# Altium footprint library Voltage regulators.PcbLib: 6 footprints
Each footprint in its own frame and in the unit in brackets; x right, y up, seen from the top. Pads: shape width x height; smd on the part's side, far side on the other; paste and mask are expansions set on the pad; w line width, h text height; cw(c..) or ccw(c..) is an arc to the next point about the centre after c.
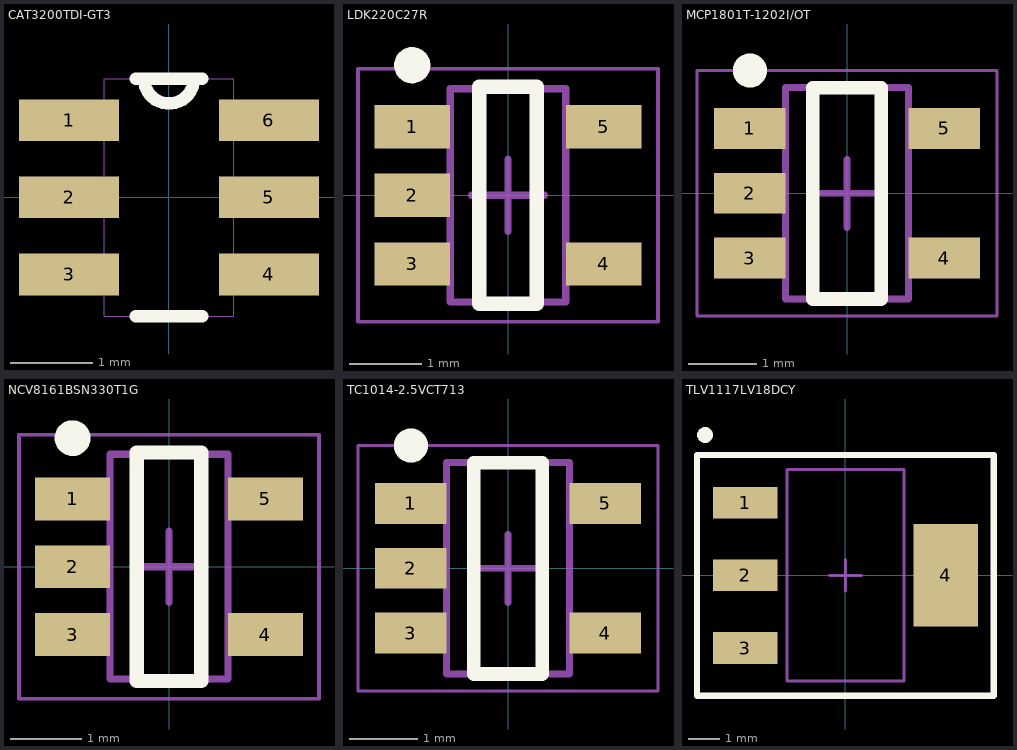
[diagram p0: the footprints below, top view; thin cyan lines are the x and y axes]

## CAT3200TDI-GT3 [mil] "Switch-mode step up reg"
pads (6):
  rect 48x20 smd: 1(-48,37) 2(-48,0) 3(-48,-37) 4(48,-37) 5(48,0) 6(48,37)
Top Overlay:
  lines w6: -16,-57 16,-57 ; -16,57 -12,57 ; 16,57 12,57 ; -12,57 ccw(c0,57) 12,57 ; -12,57 12,57
Courtyard Top:
  lines w0: -55,-46 -31,-46 ; -55,-46 -55,-29 ; -55,-46 -31,-46 ; -55,-46 -55,-29 ; -55,-29 -31,-29 ; -55,-29 -31,-29 ; -55,-9 -31,-9 ; -55,-9 -55,9 ; -55,-9 -31,-9 ; -55,-9 -55,9 ; -55,9 -31,9 ; -55,9 -31,9 ; -55,29 -31,29 ; -55,29 -55,46 ; -55,29 -31,29 ; -55,29 -55,46 ; -55,46 -31,46 ; -55,46 -31,46 ; -31,-57 -31,-46 ; -31,-57 31,-57 ; -31,-57 -31,-46 ; -31,-57 31,-57 ; -31,-46 -31,-29 ; -31,-46 -31,-29 ; -31,-29 -31,-9 ; -31,-29 -31,-9 ; -31,-9 -31,9 ; -31,-9 -31,9 ; -31,9 -31,29 ; -31,9 -31,29 ; -31,29 -31,46 ; -31,29 -31,46 ; -31,46 -31,57 ; -31,46 -31,57 ; -31,57 -12,57 ; -31,57 -12,57 ; -12,57 ccw(c0,57) 12,57 ; -12,57 ccw(c0,57) 12,57 ; -12,57 12,57 ; -12,57 12,57 ; 12,57 31,57 ; 12,57 31,57 ; 31,-57 31,-46 ; 31,-57 31,-46 ; 31,-46 55,-46 ; 31,-46 31,-29 ; 31,-46 55,-46 ; 31,-46 31,-29 ; 31,-29 55,-29 ; 31,-29 31,-9 ; 31,-29 55,-29 ; 31,-29 31,-9 ; 31,-9 55,-9 ; 31,-9 31,9 ; 31,-9 55,-9 ; 31,-9 31,9 ; 31,9 55,9 ; 31,9 31,29 ; 31,9 55,9 ; 31,9 31,29 ; 31,29 55,29 ; 31,29 31,46 ; 31,29 55,29 ; 31,29 31,46 ; 31,46 55,46 ; 31,46 31,57 ; 31,46 55,46 ; 31,46 31,57 ; 55,-46 55,-29 ; 55,-46 55,-29 ; 55,-9 55,9 ; 55,-9 55,9 ; 55,29 55,46 ; 55,29 55,46

## LDK220C27R [mm] "SOT23, 5-Leads, Body 2.95x2.80mm, Pitch 0.95mm, IPC Medium Density"
height 1.45
pads (5):
  rect 1.05x0.6 smd: 1(-1.325,0.95) 2(-1.325,0) 3(-1.325,-0.95) 4(1.325,-0.95) 5(1.325,0.95)
Top Overlay:
  circle w0.25: c-1.325,1.8 r0.125
  lines w0.2: -0.4,-1.5 -0.4,1.5 0.4,1.5 0.4,-1.5 -0.4,-1.5
Mechanical 13:
  lines w0.1: -0.8,-1.475 0.8,-1.475 0.8,1.475 -0.8,1.475 -0.8,-1.475
Mechanical 15:
  lines w0.05: -2.075,-1.75 2.075,-1.75 2.075,1.75 -2.075,1.75 -2.075,-1.75
  lines w0.1: -0.5,0 0.5,0 ; 0,-0.5 0,0.5
3D body "SOT95P280X145-5N.step": height 1.45, standoff 0, extent -1.4,-1.475 1.4,1.475

## MCP1801T-1202I/OT [mm] "SOT23, 5-Leads, Body 2,90x2,70mm, Pitch 0,95mm, IPC Medium Density"
height 1.45
pads (5):
  rect 1.05x0.6 smd: 1(-1.425,0.95) 2(-1.425,0) 3(-1.425,-0.95) 4(1.425,-0.95) 5(1.425,0.95)
Top Overlay:
  circle w0.25: c-1.425,1.8 r0.125
  lines w0.2: -0.5,-1.55 -0.5,1.55 0.5,1.55 0.5,-1.55 -0.5,-1.55
Mechanical 13:
  lines w0.1: -0.9,-1.55 0.9,-1.55 0.9,1.55 -0.9,1.55 -0.9,-1.55
Mechanical 15:
  lines w0.05: -2.2,-1.8 2.2,-1.8 2.2,1.8 -2.2,1.8 -2.2,-1.8
  lines w0.1: -0.5,0 0.5,0 ; 0,-0.5 0,0.5
3D body "SOT95P270X145-5N.step": height 1.45, standoff 0, extent -1.7,-1.55 1.7,1.55

## NCV8161BSN330T1G [mm] "SOT23, 5-Leads, Body 3.00x2.75mm, Pitch 0.95mm, IPC Medium Density"
height 1.1
pads (5):
  rect 1.05x0.6 smd: 1(-1.35,0.95) 2(-1.35,0) 3(-1.35,-0.95) 4(1.35,-0.95) 5(1.35,0.95)
Top Overlay:
  circle w0.25: c-1.35,1.8 r0.125
  lines w0.2: -0.45,-1.6 -0.45,1.6 0.45,1.6 0.45,-1.6 -0.45,-1.6
Assembly Top:
  lines w0.1: -0.825,-1.575 0.825,-1.575 0.825,1.575 -0.825,1.575 -0.825,-1.575
Courtyard Top:
  lines w0.05: -2.1,-1.85 2.1,-1.85 2.1,1.85 -2.1,1.85 -2.1,-1.85
  lines w0.1: -0.5,0 0.5,0 ; 0,-0.5 0,0.5
3D body "SOT95P275X110-5N.step": height 1.1, standoff 0, extent -1.5,-1.575 1.5,1.575

## TC1014-2.5VCT713 [mm] "SOT23, 5-Leads, Body 2,90x2,70mm, Pitch 0,95mm, IPC Medium Density"
height 1.45
pads (5):
  rect 1.05x0.6 smd: 1(-1.425,0.95) 2(-1.425,0) 3(-1.425,-0.95) 4(1.425,-0.95) 5(1.425,0.95)
Top Overlay:
  circle w0.25: c-1.425,1.8 r0.125
  lines w0.2: -0.5,-1.55 -0.5,1.55 0.5,1.55 0.5,-1.55 -0.5,-1.55
Mechanical 13:
  lines w0.1: -0.9,-1.55 0.9,-1.55 0.9,1.55 -0.9,1.55 -0.9,-1.55
Mechanical 15:
  lines w0.05: -2.2,-1.8 2.2,-1.8 2.2,1.8 -2.2,1.8 -2.2,-1.8
  lines w0.1: -0.5,0 0.5,0 ; 0,-0.5 0,0.5
3D body "SOT95P270X145-5N.step": height 1.45, standoff 0, extent -1.7,-1.55 1.7,1.55

## TLV1117LV18DCY [mm] "SOT223"
height 1.8
pads (4):
  rect 2.05x1 smd: 1(-3.175,2.3) 2(-3.175,0) 3(-3.175,-2.3)
  rect 2.05x3.25 smd: 4(3.175,0)
Top Overlay:
  circle w0.25: c-4.445,4.445 r0.125
  lines w0.2: -4.699,-3.81 4.699,-3.81 4.699,3.81 -4.699,3.81 -4.699,-3.81
Assembly Top:
  lines w0.1: -1.85,-3.35 1.85,-3.35 1.85,3.35 -1.85,3.35 -1.85,-3.35
Courtyard Top:
  lines w0.05: -4.7,-3.85 4.7,-3.85 4.7,3.85 -4.7,3.85 -4.7,-3.85
  lines w0.1: -0.5,0 0.5,0 ; 0,-0.5 0,0.5
3D body "SOT230P700X180-4M.step": height 1.8, standoff 0, extent -3.5,-3.35 3.5,3.35